# Altium footprint library 66200211022.PcbLib: 1 footprints
Each footprint in its own frame and in the unit in brackets; x right, y up, seen from the top. Pads: shape width x height; smd on the part's side, far side on the other; paste and mask are expansions set on the pad; w line width, h text height; cw(c..) or ccw(c..) is an arc to the next point about the centre after c.
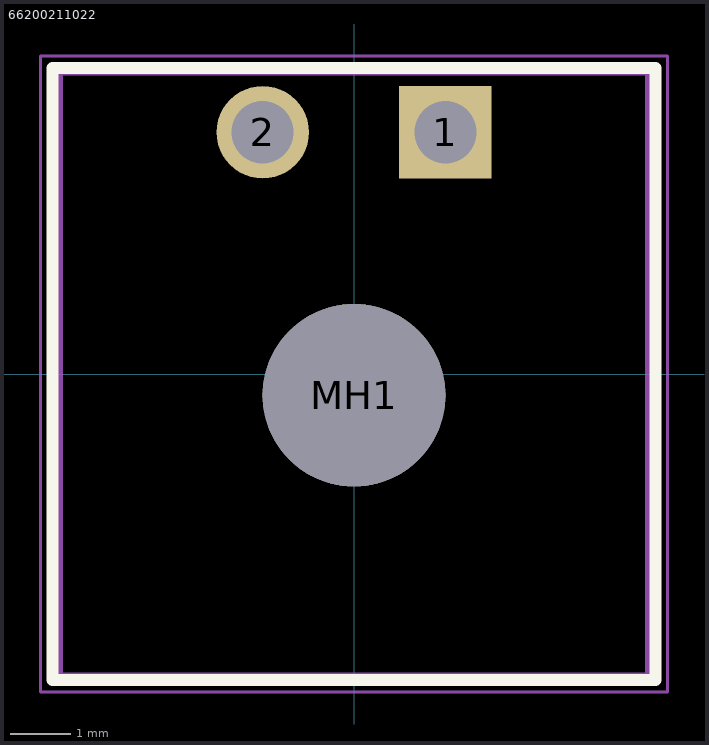
[diagram p0: the footprint, top view; thin cyan lines are the x and y axes]

## 66200211022 [mm] "Molex Micro-Fit 3.0 1x2"
pads (3):
  rect 1.52x1.52 hole 1.02: 1(1.5,3.97)
  round 1.52 hole 1.02: 2(-1.5,3.97)
  round 3 hole 3 unplated: MH1(0,-0.35)
Top Overlay:
  lines w0.2: -4.95,-5.025 -4.95,5.025 4.95,5.025 4.95,-5.025 -4.95,-5.025
Assembly Top:
  lines w0.1: -4.825,-4.95 -4.825,4.95 4.825,4.95 4.825,-4.95 -4.825,-4.95
Courtyard Top:
  lines w0.05: -0.5,0 0.5,0 ; 0,-0.5 0,0.5 ; -5.15,-5.225 -5.15,5.225 5.15,5.225 5.15,-5.225 -5.15,-5.225
3D body "66200211022.stp": height 5.6, standoff -3.16, extent -4.825,-4.95 4.825,4.95